# Altium schematic symbol library Schlib2.SchLib: 3 symbols
Pins are listed as number, name and electrical type; pins without a type are passive.

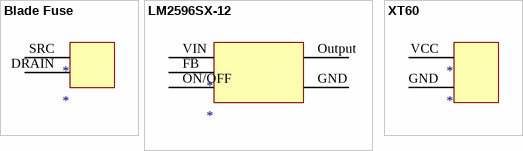
[diagram p0: symbols Blade Fuse to XT60]

## Blade Fuse
designator *
footprint Blade Fuse Holder (Footprint not found)
pins: DRAIN *, SRC *

## LM2596SX-12
designator *
LM2596SX-12
footprint DPAK170P1418X200-6L (D2-PAK, 6-Pads, Body 8.02x8.44mm (max), IPC High Density)
pins: FB *, GND *, ON/OFF *, Output *, VIN Vin

## XT60
designator *
footprint XT60 (XT60 Connector)
pins: GND *, VCC *